# Altium integrated library Infineon_Microcontroller.IntLib: 721 symbols (part 36 of 66)
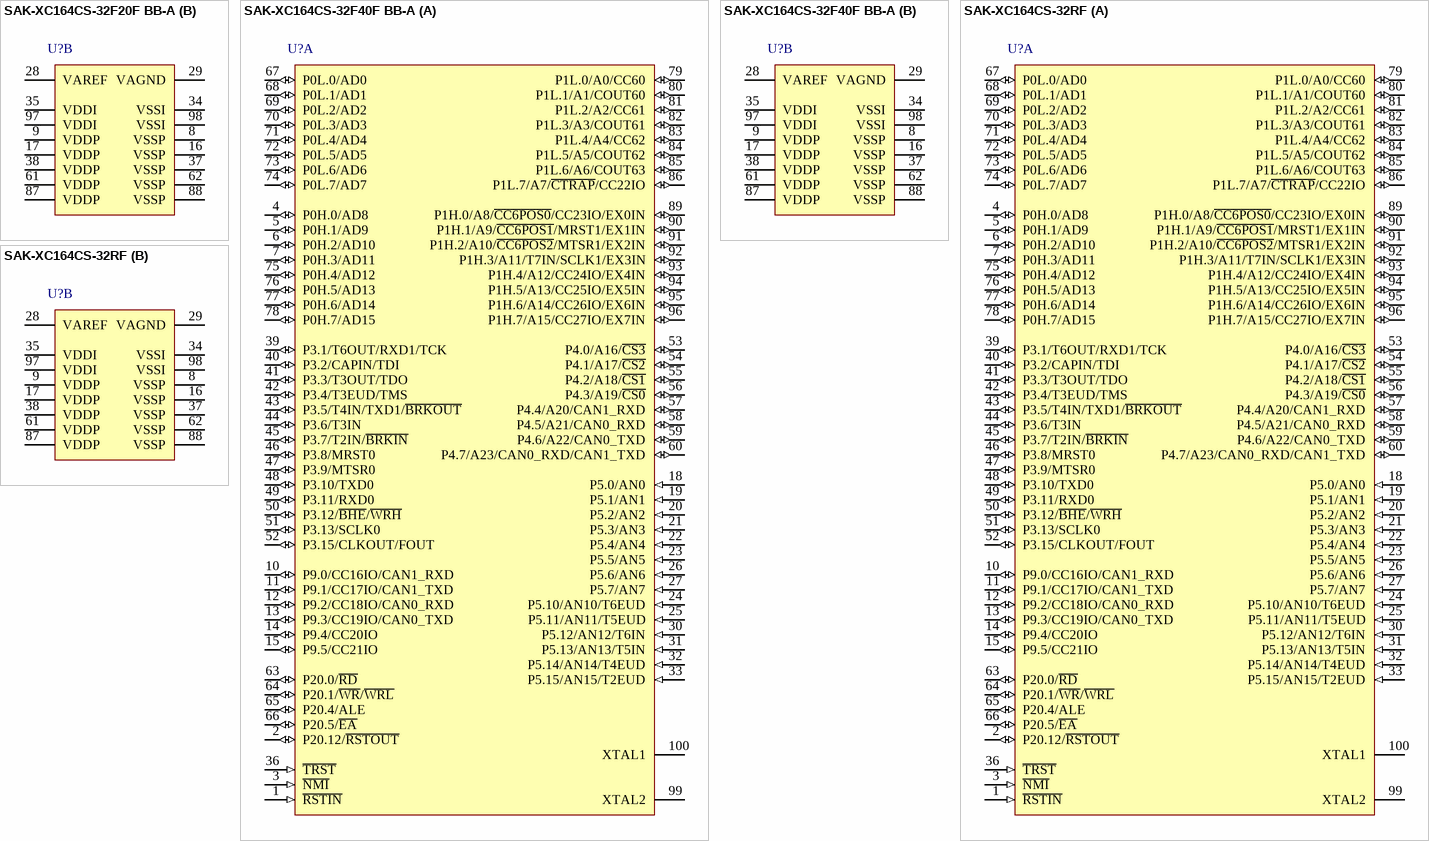
[diagram p153: symbols SAK-XC164CS-32F20F BB-A to SAK-XC164CS-32RF]

## SAK-XC164CS-32F20F BB-A
designator U?
20 MHz XC166 MCU with 256 KByte Program Memory, 12 KByte SRAM, 5 V, -40 to 125 degC, PG-TQFP-100, Reel, Green; Manufacturer: Infineon; PartNumber: SAK-XC164CS-32F20F BB-A; A / D input lines (incl. FADC): 14; CAN Nodes: 2; Digital I/O Lines: 79; DSP functionality (e.g MDU/MAC): TRUE; I/O Operation Voltages: 5 V; Instruction width [bits]: 16; Max Clock Frequency: 20 MHz; Number of ADC Modules: 1; Power Modes: 3; Serial I/O Interfaces: 4; Timed I/O Pins (PWM-Ch,CAPCOM): 36; Timer / Counter: 11; Type of Memory: Flash; Type of Serial I/O Interfaces: ASC(2), SSC(2); DatasheetVersion: Rev. 1.1; PackageVersion: V2.3, 08/2006; PackageReference: PG-TQFP-100-5; PackageDescription: 100-Pin Plastic Green Thin Quad Flat Package, Body 14 x 14 mm, Pitch 0.5 mm; Supplier 1: Digi-Key; Supplier Part Number 1: SAK-XC164CS-32F20F BB-A-ND; External Bus interface: TRUE; Green: TRUE; Halogen-free: TRUE; Oscillator Watchdog: TRUE; Packing: Reel; Program Memory: 256 KByte; Real Time Clock (RTC): TRUE; SRAM (incl. Cache): 12 KByte; Watchdog Timer: TRUE; Mounting Technology: Surface Mount; Code_JEDEC: J-STD-020C; ComponentLink1Description: Manufacturer URL; ComponentLink1URL: http://www.infineon.com/; ComponentLink2Description: Datasheet; ComponentLink2URL: http://www.infineon.com/dgdl/xc164cs_32_ds_v1.1_2006_08.pdf?folderId=db3a3043136c9a8b01136d92c94b0061&fileId=db3a3043136c9a8b01136d9c9f930069; ComponentLink3Description: Package Specification; ComponentLink3URL: http://www.infineon.com/dgdl/xc164cs_16_ds_v2.3_2006_08.pdf?folderId=db3a3043136c9a8b01136d92c94b0061&fileId=db3a3043136c9a8b01136daed118006e&sId=db3a30433d956bc3013d9bdc2bfa14ec
footprint INF-PG-TQFP-100-5_N (QFP, 100-Leads, Body 14x14mm, Pitch 0.5mm, IPC Medium Density)
footprint INF-PG-TQFP-100-5_L (QFP, 100-Leads, Body 14x14mm, Pitch 0.5mm, IPC High Density)
footprint INF-PG-TQFP-100-5_M (QFP, 100-Leads, Body 14x14mm, Pitch 0.5mm, IPC Low Density)
part A pins: 1 ~{RSTIN} (in) "Reset Input with Schmitt-Trigger characteristics. A low level at this pin while the oscillator is running resets the XC164CS. A spike filter suppresses input pulses < 10 ns. Input pulses > 100 ns safely pass the filter. The (See Datasheet)", 2 P20.12/~{RSTOUT} (io), 3 ~{NMI} (in) "Non-Maskable Interrupt Input. A high to low transition at this pin causes the CPU to vector to the NMI trap routine. When the PWRDN (power down) instruction is executed, the N\M\I\ pin must be low in order to force the (See Datasheet)", 4 P0H.0/AD8 (io), 5 P0H.1/AD9 (io), 6 P0H.2/AD10 (io), 7 P0H.3/AD11 (io), 10 P9.0/CC16IO/CAN1_RXD (io), 11 P9.1/CC17IO/CAN1_TXD (io), 12 P9.2/CC18IO/CAN0_RXD (io), 13 P9.3/CC19IO/CAN0_TXD (io), 14 P9.4/CC20IO (io), 15 P9.5/CC21IO (io), 18 P5.0/AN0 (in), 19 P5.1/AN1 (in), 20 P5.2/AN2 (in), 21 P5.3/AN3 (in), 22 P5.4/AN4 (in), 23 P5.5/AN5 (in), 24 P5.10/AN10/T6EUD (in), 25 P5.11/AN11/T5EUD (in), 26 P5.6/AN6 (in), 27 P5.7/AN7 (in), 30 P5.12/AN12/T6IN (in), 31 P5.13/AN13/T5IN (in), 32 P5.14/AN14/T4EUD (in), 33 P5.15/AN15/T2EUD (in), 36 ~{TRST} (in) "Test-System Reset Input. A high level at this pin activates the XC164CS’s debug system. For normal system operation, pin T\R\S\T\ should be held low.", 39 P3.1/T6OUT/RXD1/TCK (io), 40 P3.2/CAPIN/TDI (io), 41 P3.3/T3OUT/TDO (io), 42 P3.4/T3EUD/TMS (io), 43 P3.5/T4IN/TXD1/~{BRKOUT} (io), 44 P3.6/T3IN (io), 45 P3.7/T2IN/~{BRKIN} (io), 46 P3.8/MRST0 (io), 47 P3.9/MTSR0 (io), 48 P3.10/TXD0 (io), 49 P3.11/RXD0 (io), 50 P3.12/~{BHE}/~{WRH} (io), 51 P3.13/SCLK0 (io), 52 P3.15/CLKOUT/FOUT (io), 53 P4.0/A16/~{CS3} (io), 54 P4.1/A17/~{CS2} (io), 55 P4.2/A18/~{CS1} (io), 56 P4.3/A19/~{CS0} (io), 57 P4.4/A20/CAN1_RXD (io), 58 P4.5/A21/CAN0_RXD (io), 59 P4.6/A22/CAN0_TXD (io), 60 P4.7/A23/CAN0_RXD/CAN1_TXD (io), 63 P20.0/~{RD} (io), 64 P20.1/~{WR}/~{WRL} (io), 65 P20.4/ALE (io), 66 P20.5/~{EA} (io), 67 P0L.0/AD0 (io), 68 P0L.1/AD1 (io), 69 P0L.2/AD2 (io), 70 P0L.3/AD3 (io), 71 P0L.4/AD4 (io), 72 P0L.5/AD5 (io), 73 P0L.6/AD6 (io), 74 P0L.7/AD7 (io), 75 P0H.4/AD12 (io), 76 P0H.5/AD13 (io), 77 P0H.6/AD14 (io), 78 P0H.7/AD15 (io), 79 P1L.0/A0/CC60 (io), 80 P1L.1/A1/COUT60 (io), 81 P1L.2/A2/CC61 (io), 82 P1L.3/A3/COUT61 (io), 83 P1L.4/A4/CC62 (io), 84 P1L.5/A5/COUT62 (io), 85 P1L.6/A6/COUT63 (io), 86 P1L.7/A7/~{CTRAP}/CC22IO (io), 89 P1H.0/A8/~{CC6POS0}/CC23IO/EX0IN (io), 90 P1H.1/A9/~{CC6POS1}/MRST1/EX1IN (io), 91 P1H.2/A10/~{CC6POS2}/MTSR1/EX2IN (io), 92 P1H.3/A11/T7IN/SCLK1/EX3IN (io), 93 P1H.4/A12/CC24IO/EX4IN (io), 94 P1H.5/A13/CC25IO/EX5IN (io), 95 P1H.6/A14/CC26IO/EX6IN (io), 96 P1H.7/A15/CC27IO/EX7IN (io), 99 XTAL2 "Output of the oscillator amplifier circuit", 100 XTAL1 "Input to the oscillator amplifier and input to the internal clock generator"
part B pins: 8 VSSP (power) "Digital Ground.", 9 VDDP (power) "Digital Pad Supply Voltage", 16 VSSP (power) "Digital Ground.", 17 VDDP (power) "Digital Pad Supply Voltage", 28 VAREF (power) "Reference voltage for the A/D converter.", 29 VAGND (power) "Reference ground for the A/D converter.", 34 VSSI (power) "Digital Ground.", 35 VDDI (power) "Digital Core Supply Voltage", 37 VSSP (power) "Digital Ground.", 38 VDDP (power) "Digital Pad Supply Voltage", 61 VDDP (power) "Digital Pad Supply Voltage", 62 VSSP (power) "Digital Ground.", 87 VDDP (power) "Digital Pad Supply Voltage", 88 VSSP (power) "Digital Ground.", 97 VDDI (power) "Digital Core Supply Voltage", 98 VSSI (power) "Digital Ground."

## SAK-XC164CS-32F40F BB-A
designator U?
40 MHz XC166 MCU with 256 KByte Program Memory, 12 KByte SRAM, 5 V, -40 to 125 degC, PG-TQFP-100, Reel, Green; Manufacturer: Infineon; PartNumber: SAK-XC164CS-32F40F BB-A; A / D input lines (incl. FADC): 14; CAN Nodes: 2; Digital I/O Lines: 79; DSP functionality (e.g MDU/MAC): TRUE; I/O Operation Voltages: 5 V; Instruction width [bits]: 16; Max Clock Frequency: 40 MHz; Number of ADC Modules: 1; Power Modes: 3; Serial I/O Interfaces: 4; Timed I/O Pins (PWM-Ch,CAPCOM): 36; Timer / Counter: 11; Type of Memory: Flash; Type of Serial I/O Interfaces: ASC(2), SSC(2); DatasheetVersion: Rev. 1.1; PackageVersion: V2.3, 08/2006; PackageReference: PG-TQFP-100-5; PackageDescription: 100-Pin Plastic Green Thin Quad Flat Package, Body 14 x 14 mm, Pitch 0.5 mm; Supplier 1: Mouser; Supplier Part Number 1: 726-SAK164CS32F40FBA; Supplier 2: Newark; Supplier Part Number 2: 47W3712; Supplier 3: Farnell; Supplier Part Number 3: 2212021; Supplier 4: Digi-Key; Supplier Part Number 4: SAK-XC164CS-32F40FBB-AINTR-ND; Supplier 5: Digi-Key; Supplier Part Number 5: SAK-XC164CS-32F40FBB-AINCT-ND; Supplier 6: Digi-Key; Supplier Part Number 6: SAK-XC164CS-32F40FBB-AINDKR-ND; External Bus interface: TRUE; Green: TRUE; Halogen-free: TRUE; Oscillator Watchdog: TRUE; Packing: Reel; Program Memory: 256 KByte; Real Time Clock (RTC): TRUE; SRAM (incl. Cache): 12 KByte; Watchdog Timer: TRUE; Mounting Technology: Surface Mount; Code_JEDEC: J-STD-020C; ComponentLink1Description: Manufacturer URL; ComponentLink1URL: http://www.infineon.com/; ComponentLink2Description: Datasheet; ComponentLink2URL: http://www.infineon.com/dgdl/xc164cs_32_ds_v1.1_2006_08.pdf?folderId=db3a3043136c9a8b01136d92c94b0061&fileId=db3a3043136c9a8b01136d9c9f930069; ComponentLink3Description: Package Specification; ComponentLink3URL: http://www.infineon.com/dgdl/xc164cs_16_ds_v2.3_2006_08.pdf?folderId=db3a3043136c9a8b01136d92c94b0061&fileId=db3a3043136c9a8b01136daed118006e&sId=db3a30433d956bc3013d9bdc2bfa14ec
footprint INF-PG-TQFP-100-5_N (QFP, 100-Leads, Body 14x14mm, Pitch 0.5mm, IPC Medium Density)
footprint INF-PG-TQFP-100-5_L (QFP, 100-Leads, Body 14x14mm, Pitch 0.5mm, IPC High Density)
footprint INF-PG-TQFP-100-5_M (QFP, 100-Leads, Body 14x14mm, Pitch 0.5mm, IPC Low Density)
part A pins: 1 ~{RSTIN} (in) "Reset Input with Schmitt-Trigger characteristics. A low level at this pin while the oscillator is running resets the XC164CS. A spike filter suppresses input pulses < 10 ns. Input pulses > 100 ns safely pass the filter. The (See Datasheet)", 2 P20.12/~{RSTOUT} (io), 3 ~{NMI} (in) "Non-Maskable Interrupt Input. A high to low transition at this pin causes the CPU to vector to the NMI trap routine. When the PWRDN (power down) instruction is executed, the N\M\I\ pin must be low in order to force the (See Datasheet)", 4 P0H.0/AD8 (io), 5 P0H.1/AD9 (io), 6 P0H.2/AD10 (io), 7 P0H.3/AD11 (io), 10 P9.0/CC16IO/CAN1_RXD (io), 11 P9.1/CC17IO/CAN1_TXD (io), 12 P9.2/CC18IO/CAN0_RXD (io), 13 P9.3/CC19IO/CAN0_TXD (io), 14 P9.4/CC20IO (io), 15 P9.5/CC21IO (io), 18 P5.0/AN0 (in), 19 P5.1/AN1 (in), 20 P5.2/AN2 (in), 21 P5.3/AN3 (in), 22 P5.4/AN4 (in), 23 P5.5/AN5 (in), 24 P5.10/AN10/T6EUD (in), 25 P5.11/AN11/T5EUD (in), 26 P5.6/AN6 (in), 27 P5.7/AN7 (in), 30 P5.12/AN12/T6IN (in), 31 P5.13/AN13/T5IN (in), 32 P5.14/AN14/T4EUD (in), 33 P5.15/AN15/T2EUD (in), 36 ~{TRST} (in) "Test-System Reset Input. A high level at this pin activates the XC164CS’s debug system. For normal system operation, pin T\R\S\T\ should be held low.", 39 P3.1/T6OUT/RXD1/TCK (io), 40 P3.2/CAPIN/TDI (io), 41 P3.3/T3OUT/TDO (io), 42 P3.4/T3EUD/TMS (io), 43 P3.5/T4IN/TXD1/~{BRKOUT} (io), 44 P3.6/T3IN (io), 45 P3.7/T2IN/~{BRKIN} (io), 46 P3.8/MRST0 (io), 47 P3.9/MTSR0 (io), 48 P3.10/TXD0 (io), 49 P3.11/RXD0 (io), 50 P3.12/~{BHE}/~{WRH} (io), 51 P3.13/SCLK0 (io), 52 P3.15/CLKOUT/FOUT (io), 53 P4.0/A16/~{CS3} (io), 54 P4.1/A17/~{CS2} (io), 55 P4.2/A18/~{CS1} (io), 56 P4.3/A19/~{CS0} (io), 57 P4.4/A20/CAN1_RXD (io), 58 P4.5/A21/CAN0_RXD (io), 59 P4.6/A22/CAN0_TXD (io), 60 P4.7/A23/CAN0_RXD/CAN1_TXD (io), 63 P20.0/~{RD} (io), 64 P20.1/~{WR}/~{WRL} (io), 65 P20.4/ALE (io), 66 P20.5/~{EA} (io), 67 P0L.0/AD0 (io), 68 P0L.1/AD1 (io), 69 P0L.2/AD2 (io), 70 P0L.3/AD3 (io), 71 P0L.4/AD4 (io), 72 P0L.5/AD5 (io), 73 P0L.6/AD6 (io), 74 P0L.7/AD7 (io), 75 P0H.4/AD12 (io), 76 P0H.5/AD13 (io), 77 P0H.6/AD14 (io), 78 P0H.7/AD15 (io), 79 P1L.0/A0/CC60 (io), 80 P1L.1/A1/COUT60 (io), 81 P1L.2/A2/CC61 (io), 82 P1L.3/A3/COUT61 (io), 83 P1L.4/A4/CC62 (io), 84 P1L.5/A5/COUT62 (io), 85 P1L.6/A6/COUT63 (io), 86 P1L.7/A7/~{CTRAP}/CC22IO (io), 89 P1H.0/A8/~{CC6POS0}/CC23IO/EX0IN (io), 90 P1H.1/A9/~{CC6POS1}/MRST1/EX1IN (io), 91 P1H.2/A10/~{CC6POS2}/MTSR1/EX2IN (io), 92 P1H.3/A11/T7IN/SCLK1/EX3IN (io), 93 P1H.4/A12/CC24IO/EX4IN (io), 94 P1H.5/A13/CC25IO/EX5IN (io), 95 P1H.6/A14/CC26IO/EX6IN (io), 96 P1H.7/A15/CC27IO/EX7IN (io), 99 XTAL2 "Output of the oscillator amplifier circuit", 100 XTAL1 "Input to the oscillator amplifier and input to the internal clock generator"
part B pins: 8 VSSP (power) "Digital Ground.", 9 VDDP (power) "Digital Pad Supply Voltage", 16 VSSP (power) "Digital Ground.", 17 VDDP (power) "Digital Pad Supply Voltage", 28 VAREF (power) "Reference voltage for the A/D converter.", 29 VAGND (power) "Reference ground for the A/D converter.", 34 VSSI (power) "Digital Ground.", 35 VDDI (power) "Digital Core Supply Voltage", 37 VSSP (power) "Digital Ground.", 38 VDDP (power) "Digital Pad Supply Voltage", 61 VDDP (power) "Digital Pad Supply Voltage", 62 VSSP (power) "Digital Ground.", 87 VDDP (power) "Digital Pad Supply Voltage", 88 VSSP (power) "Digital Ground.", 97 VDDI (power) "Digital Core Supply Voltage", 98 VSSI (power) "Digital Ground."

## SAK-XC164CS-32RF
designator U?
40 MHz XC166 MCU with 256 KByte Program Memory, 12 KByte SRAM, 5 V, -40 to 125 degC, PG-TQFP-100, Green; Manufacturer: Infineon; PartNumber: SAK-XC164CS-32RF; A / D input lines (incl. FADC): 14; CAN Nodes: 2; Digital I/O Lines: 79; DSP functionality (e.g MDU/MAC): TRUE; I/O Operation Voltages: 5 V; Instruction width [bits]: 16; Max Clock Frequency: 40 MHz; Number of ADC Modules: 1; Power Modes: 3; Serial I/O Interfaces: 4; Timed I/O Pins (PWM-Ch,CAPCOM): 36; Timer / Counter: 11; Type of Memory: ROM; Type of Serial I/O Interfaces: ASC(2), SSC(2); DatasheetVersion: Rev. 1.1; PackageVersion: V2.3, 08/2006; PackageReference: PG-TQFP-100-5; PackageDescription: 100-Pin Plastic Green Thin Quad Flat Package, Body 14 x 14 mm, Pitch 0.5 mm; Supplier 1: Mouser; Supplier Part Number 1: N/A; External Bus interface: TRUE; Green: TRUE; Oscillator Watchdog: TRUE; Program Memory: 256 KByte; Real Time Clock (RTC): TRUE; SRAM (incl. Cache): 12 KByte; Watchdog Timer: TRUE; Mounting Technology: Surface Mount; Code_JEDEC: J-STD-020C; ComponentLink1Description: Manufacturer URL; ComponentLink1URL: http://www.infineon.com/; ComponentLink2Description: Datasheet; ComponentLink2URL: http://www.infineon.com/dgdl/xc164cs_32_ds_v1.1_2006_08.pdf?folderId=db3a3043136c9a8b01136d92c94b0061&fileId=db3a3043136c9a8b01136d9c9f930069; ComponentLink3Description: Package Specification; ComponentLink3URL: http://www.infineon.com/dgdl/xc164cs_16_ds_v2.3_2006_08.pdf?folderId=db3a3043136c9a8b01136d92c94b0061&fileId=db3a3043136c9a8b01136daed118006e&sId=db3a30433d956bc3013d9bdc2bfa14ec
footprint INF-PG-TQFP-100-5_N (QFP, 100-Leads, Body 14x14mm, Pitch 0.5mm, IPC Medium Density)
footprint INF-PG-TQFP-100-5_L (QFP, 100-Leads, Body 14x14mm, Pitch 0.5mm, IPC High Density)
footprint INF-PG-TQFP-100-5_M (QFP, 100-Leads, Body 14x14mm, Pitch 0.5mm, IPC Low Density)
part A pins: 1 ~{RSTIN} (in) "Reset Input with Schmitt-Trigger characteristics. A low level at this pin while the oscillator is running resets the XC164CS. A spike filter suppresses input pulses < 10 ns. Input pulses > 100 ns safely pass the filter. The (See Datasheet)", 2 P20.12/~{RSTOUT} (io), 3 ~{NMI} (in) "Non-Maskable Interrupt Input. A high to low transition at this pin causes the CPU to vector to the NMI trap routine. When the PWRDN (power down) instruction is executed, the N\M\I\ pin must be low in order to force the (See Datasheet)", 4 P0H.0/AD8 (io), 5 P0H.1/AD9 (io), 6 P0H.2/AD10 (io), 7 P0H.3/AD11 (io), 10 P9.0/CC16IO/CAN1_RXD (io), 11 P9.1/CC17IO/CAN1_TXD (io), 12 P9.2/CC18IO/CAN0_RXD (io), 13 P9.3/CC19IO/CAN0_TXD (io), 14 P9.4/CC20IO (io), 15 P9.5/CC21IO (io), 18 P5.0/AN0 (in), 19 P5.1/AN1 (in), 20 P5.2/AN2 (in), 21 P5.3/AN3 (in), 22 P5.4/AN4 (in), 23 P5.5/AN5 (in), 24 P5.10/AN10/T6EUD (in), 25 P5.11/AN11/T5EUD (in), 26 P5.6/AN6 (in), 27 P5.7/AN7 (in), 30 P5.12/AN12/T6IN (in), 31 P5.13/AN13/T5IN (in), 32 P5.14/AN14/T4EUD (in), 33 P5.15/AN15/T2EUD (in), 36 ~{TRST} (in) "Test-System Reset Input. A high level at this pin activates the XC164CS’s debug system. For normal system operation, pin T\R\S\T\ should be held low.", 39 P3.1/T6OUT/RXD1/TCK (io), 40 P3.2/CAPIN/TDI (io), 41 P3.3/T3OUT/TDO (io), 42 P3.4/T3EUD/TMS (io), 43 P3.5/T4IN/TXD1/~{BRKOUT} (io), 44 P3.6/T3IN (io), 45 P3.7/T2IN/~{BRKIN} (io), 46 P3.8/MRST0 (io), 47 P3.9/MTSR0 (io), 48 P3.10/TXD0 (io), 49 P3.11/RXD0 (io), 50 P3.12/~{BHE}/~{WRH} (io), 51 P3.13/SCLK0 (io), 52 P3.15/CLKOUT/FOUT (io), 53 P4.0/A16/~{CS3} (io), 54 P4.1/A17/~{CS2} (io), 55 P4.2/A18/~{CS1} (io), 56 P4.3/A19/~{CS0} (io), 57 P4.4/A20/CAN1_RXD (io), 58 P4.5/A21/CAN0_RXD (io), 59 P4.6/A22/CAN0_TXD (io), 60 P4.7/A23/CAN0_RXD/CAN1_TXD (io), 63 P20.0/~{RD} (io), 64 P20.1/~{WR}/~{WRL} (io), 65 P20.4/ALE (io), 66 P20.5/~{EA} (io), 67 P0L.0/AD0 (io), 68 P0L.1/AD1 (io), 69 P0L.2/AD2 (io), 70 P0L.3/AD3 (io), 71 P0L.4/AD4 (io), 72 P0L.5/AD5 (io), 73 P0L.6/AD6 (io), 74 P0L.7/AD7 (io), 75 P0H.4/AD12 (io), 76 P0H.5/AD13 (io), 77 P0H.6/AD14 (io), 78 P0H.7/AD15 (io), 79 P1L.0/A0/CC60 (io), 80 P1L.1/A1/COUT60 (io), 81 P1L.2/A2/CC61 (io), 82 P1L.3/A3/COUT61 (io), 83 P1L.4/A4/CC62 (io), 84 P1L.5/A5/COUT62 (io), 85 P1L.6/A6/COUT63 (io), 86 P1L.7/A7/~{CTRAP}/CC22IO (io), 89 P1H.0/A8/~{CC6POS0}/CC23IO/EX0IN (io), 90 P1H.1/A9/~{CC6POS1}/MRST1/EX1IN (io), 91 P1H.2/A10/~{CC6POS2}/MTSR1/EX2IN (io), 92 P1H.3/A11/T7IN/SCLK1/EX3IN (io), 93 P1H.4/A12/CC24IO/EX4IN (io), 94 P1H.5/A13/CC25IO/EX5IN (io), 95 P1H.6/A14/CC26IO/EX6IN (io), 96 P1H.7/A15/CC27IO/EX7IN (io), 99 XTAL2 "Output of the oscillator amplifier circuit", 100 XTAL1 "Input to the oscillator amplifier and input to the internal clock generator"
part B pins: 8 VSSP (power) "Digital Ground.", 9 VDDP (power) "Digital Pad Supply Voltage", 16 VSSP (power) "Digital Ground.", 17 VDDP (power) "Digital Pad Supply Voltage", 28 VAREF (power) "Reference voltage for the A/D converter.", 29 VAGND (power) "Reference ground for the A/D converter.", 34 VSSI (power) "Digital Ground.", 35 VDDI (power) "Digital Core Supply Voltage", 37 VSSP (power) "Digital Ground.", 38 VDDP (power) "Digital Pad Supply Voltage", 61 VDDP (power) "Digital Pad Supply Voltage", 62 VSSP (power) "Digital Ground.", 87 VDDP (power) "Digital Pad Supply Voltage", 88 VSSP (power) "Digital Ground.", 97 VDDI (power) "Digital Core Supply Voltage", 98 VSSI (power) "Digital Ground."

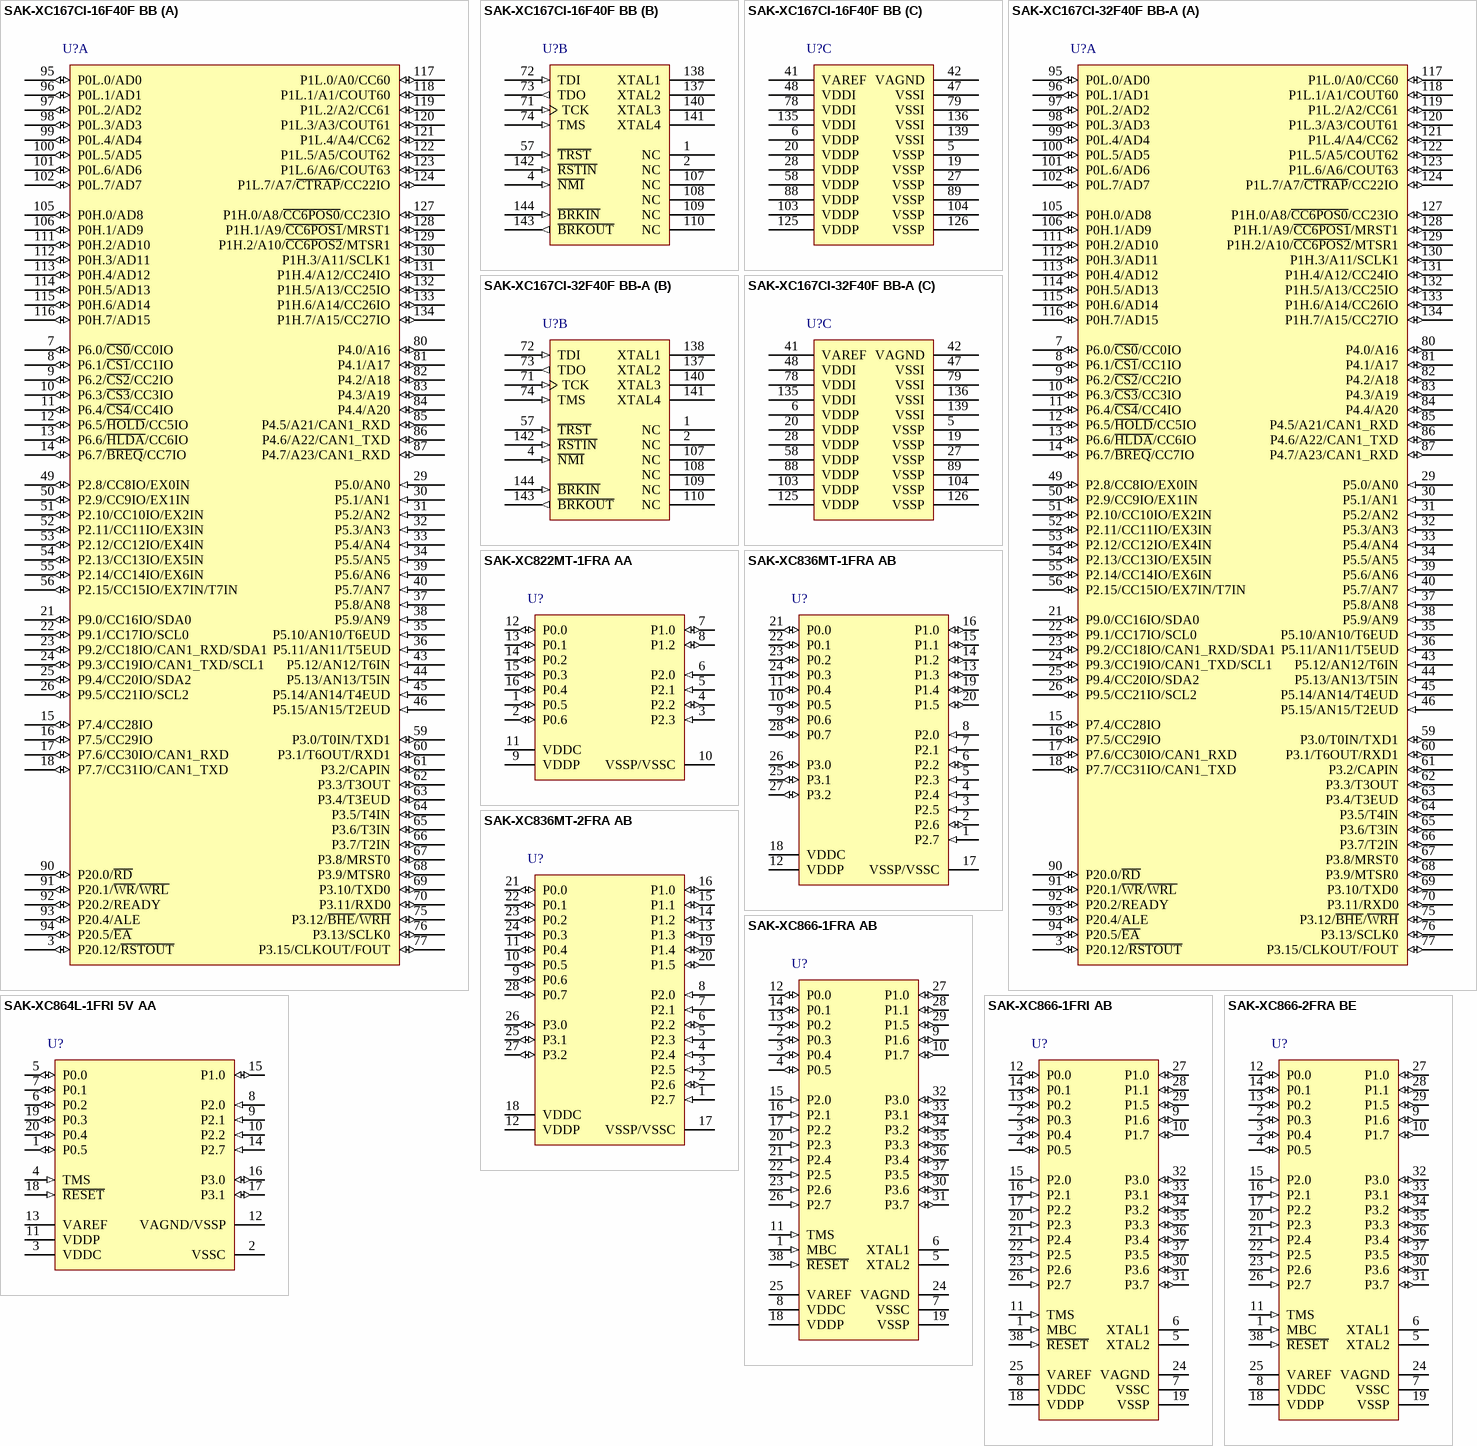
[diagram p66: symbols SAK-XC167CI-16F40F BB to SAK-XC866-2FRA BE]

## SAK-XC167CI-16F40F BB
designator U?
40 MHz XC166 MCU with 128 KByte Program Memory, 8 KByte SRAM, 5 V, -40 to 125 degC, PG-TQFP-144, Reel, Green; Manufacturer: Infineon; PartNumber: SAK-XC167CI-16F40F BB; A / D input lines (incl. FADC): 16; CAN Nodes: 2; Digital I/O Lines: 103; DSP functionality (e.g MDU/MAC): TRUE; I/O Operation Voltages: 5 V; Max Clock Frequency: 40 MHz; Number of ADC Modules: 1; Power Modes: 3; Serial I/O Interfaces: 5; SRAM (incl. Cache): 8 KByte; Timed I/O Pins (PWM-Ch,CAPCOM): 36; Timer / Counter: 11; Type of Memory: Flash; Type of Serial I/O Interfaces: ASC(2), SSC(2), I2C(1); DatasheetVersion: Rev. 1.3; PackageVersion: V1.1, 08/2006; PackageReference: PG-TQFP-144-7; PackageDescription: 144-Pin Plastic Green Thin Quad Flat Package, Body 20 x 20 mm, Pitch 0.5 mm; Supplier 1: Mouser; Supplier Part Number 1: 726-SAKXC167CI16F40F; Supplier 2: Digi-Key; Supplier Part Number 2: SAK-XC167CI-16F40F BB-ND; External Bus interface: TRUE; Green: TRUE; Halogen-free: TRUE; Instruction width [bits]: 16; Oscillator Watchdog: TRUE; Packing: Reel; Program Memory: 128 KByte; Real Time Clock (RTC): TRUE; Watchdog Timer: TRUE; Mounting Technology: Surface Mount; Code_JEDEC: J-STD-020C; ComponentLink1Description: Manufacturer URL; ComponentLink1URL: http://www.infineon.com/; ComponentLink2Description: Datasheet; ComponentLink2URL: http://www.infineon.com/dgdl/xc167_16_ds_v1.3_2006_08.pdf?folderId=db3a304412b407950112b408e8c90004&fileId=db3a304412b407950112b41c5e142dfa; ComponentLink3Description: Package Specification; ComponentLink3URL: http://www.infineon.com/dgdl/xc167_32_ds_v1.1_2006_08.pdf?folderId=db3a304412b407950112b408e8c90004&fileId=db3a304412b407950112b41c637b2e04&sId=db3a30433d956bc3013d9c1678401507
footprint INF-PG-TQFP-144-7_N (QFP, 144-Leads, Body 20x20mm, Pitch 0.5mm, IPC Medium Density)
footprint INF-PG-TQFP-144-7_L (QFP, 144-Leads, Body 20x20mm, Pitch 0.5mm, IPC High Density)
footprint INF-PG-TQFP-144-7_M (QFP, 144-Leads, Body 20x20mm, Pitch 0.5mm, IPC Low Density)
part A pins: 3 P20.12/~{RSTOUT} (io), 7 P6.0/~{CS0}/CC0IO (io), 8 P6.1/~{CS1}/CC1IO (io), 9 P6.2/~{CS2}/CC2IO (io), 10 P6.3/~{CS3}/CC3IO (io), 11 P6.4/~{CS4}/CC4IO (io), 12 P6.5/~{HOLD}/CC5IO (io), 13 P6.6/~{HLDA}/CC6IO (io), 14 P6.7/~{BREQ}/CC7IO (io), 15 P7.4/CC28IO (io), 16 P7.5/CC29IO (io), 17 P7.6/CC30IO/CAN1_RXD (io), 18 P7.7/CC31IO/CAN1_TXD (io), 21 P9.0/CC16IO/SDA0 (io), 22 P9.1/CC17IO/SCL0 (io), 23 P9.2/CC18IO/CAN1_RXD/SDA1 (io), 24 P9.3/CC19IO/CAN1_TXD/SCL1 (io), 25 P9.4/CC20IO/SDA2 (io), 26 P9.5/CC21IO/SCL2 (io), 29 P5.0/AN0 (in), 30 P5.1/AN1 (in), 31 P5.2/AN2 (in), 32 P5.3/AN3 (in), 33 P5.4/AN4 (in), 34 P5.5/AN5 (in), 35 P5.10/AN10/T6EUD (in), 36 P5.11/AN11/T5EUD (in), 37 P5.8/AN8 (in), 38 P5.9/AN9 (in), 39 P5.6/AN6 (in), 40 P5.7/AN7 (in), 43 P5.12/AN12/T6IN (in), 44 P5.13/AN13/T5IN (in), 45 P5.14/AN14/T4EUD (in), 46 P5.15/AN15/T2EUD (in), 49 P2.8/CC8IO/EX0IN (io), 50 P2.9/CC9IO/EX1IN (io), 51 P2.10/CC10IO/EX2IN (io), 52 P2.11/CC11IO/EX3IN (io), 53 P2.12/CC12IO/EX4IN (io), 54 P2.13/CC13IO/EX5IN (io), 55 P2.14/CC14IO/EX6IN (io), 56 P2.15/CC15IO/EX7IN/T7IN (io), 59 P3.0/T0IN/TXD1 (io), 60 P3.1/T6OUT/RXD1 (io), 61 P3.2/CAPIN (io), 62 P3.3/T3OUT (io), 63 P3.4/T3EUD (io), 64 P3.5/T4IN (io), 65 P3.6/T3IN (io), 66 P3.7/T2IN (io), 67 P3.8/MRST0 (io), 68 P3.9/MTSR0 (io), 69 P3.10/TXD0 (io), 70 P3.11/RXD0 (io), 75 P3.12/~{BHE}/~{WRH} (io), 76 P3.13/SCLK0 (io), 77 P3.15/CLKOUT/FOUT (io), 80 P4.0/A16 (io), 81 P4.1/A17 (io), 82 P4.2/A18 (io), 83 P4.3/A19 (io), 84 P4.4/A20 (io), 85 P4.5/A21/CAN1_RXD (io), 86 P4.6/A22/CAN1_TXD (io), 87 P4.7/A23/CAN1_RXD (io), 90 P20.0/~{RD} (io), 91 P20.1/~{WR}/~{WRL} (io), 92 P20.2/READY (io), 93 P20.4/ALE (io), 94 P20.5/~{EA} (io), 95 P0L.0/AD0 (io), 96 P0L.1/AD1 (io), 97 P0L.2/AD2 (io), 98 P0L.3/AD3 (io), 99 P0L.4/AD4 (io), 100 P0L.5/AD5 (io), 101 P0L.6/AD6 (io), 102 P0L.7/AD7 (io), 105 P0H.0/AD8 (io), 106 P0H.1/AD9 (io), 111 P0H.2/AD10 (io), 112 P0H.3/AD11 (io), 113 P0H.4/AD12 (io), 114 P0H.5/AD13 (io), 115 P0H.6/AD14 (io), 116 P0H.7/AD15 (io), 117 P1L.0/A0/CC60 (io), 118 P1L.1/A1/COUT60 (io), 119 P1L.2/A2/CC61 (io), 120 P1L.3/A3/COUT61 (io), 121 P1L.4/A4/CC62 (io), 122 P1L.5/A5/COUT62 (io), 123 P1L.6/A6/COUT63 (io), 124 P1L.7/A7/~{CTRAP}/CC22IO (io), 127 P1H.0/A8/~{CC6POS0}/CC23IO (io), 128 P1H.1/A9/~{CC6POS1}/MRST1 (io), 129 P1H.2/A10/~{CC6POS2}/MTSR1 (io), 130 P1H.3/A11/SCLK1 (io), 131 P1H.4/A12/CC24IO (io), 132 P1H.5/A13/CC25IO (io), 133 P1H.6/A14/CC26IO (io), 134 P1H.7/A15/CC27IO (io)
part B pins: 1 NC "No connection. It is recommended not to connect these pins to the PCB.", 2 NC "No connection. It is recommended not to connect these pins to the PCB.", 4 ~{NMI} (in) "Non-Maskable Interrupt Input. A high to low transition at this pin causes the CPU to vector to the NMI trap routine. When the PWRDN (power down) instruction is executed, the N\M\I\ pin must be low in order to force the (See Datasheet)", 57 ~{TRST} (in) "Test-System Reset Input. For normal system operation, pin T\R\S\T\ should be held low. A high level at this pin at the rising edge of R\S\T\I\N\ activates the XC164CM’s debug system. In this case, pin T\R\S\T\ must b(See Datasheet)", 71 TCK (in) "Debug System: JTAG Clock Input", 72 TDI (in) "Debug System: JTAG Data In", 73 TDO (out) "Debug System: JTAG Data Out", 74 TMS (in) "Debug System: JTAG Test Mode Selection", 107 NC "No connection. It is recommended not to connect these pins to the PCB.", 108 NC "No connection. It is recommended not to connect these pins to the PCB.", 109 NC "No connection. It is recommended not to connect these pins to the PCB.", 110 NC "No connection. It is recommended not to connect these pins to the PCB.", 137 XTAL2 "Output of the main oscillator amplifier circuit", 138 XTAL1 "Input to the main oscillator amplifier and input to the internal clock generator", 140 XTAL3 "Input to the auxiliary (32-kHz) oscillator amplifier", 141 XTAL4 "Output of the auxiliary (32-kHz) oscillator amplifier circuit", 142 ~{RSTIN} (in) "Reset Input with Schmitt-Trigger characteristics. A low level at this pin while the oscillator is running resets the C161PI. An internal pullup resistor permits power-on reset using only a capacitor connected to 9SS. A spike (See Datasheet)", 143 ~{BRKOUT} (out) "Debug System: Break Out", 144 ~{BRKIN} (in) "Debug System: Break In"
part C pins: 5 VSSP (power) "Digital Ground", 6 VDDP (power) "Digital Pad Supply Voltage", 19 VSSP (power) "Digital Ground", 20 VDDP (power) "Digital Pad Supply Voltage", 27 VSSP (power) "Digital Ground", 28 VDDP (power) "Digital Pad Supply Voltage", 41 VAREF (power) "Reference voltage for the A/D converter.", 42 VAGND (power) "Reference ground for the A/D converter.", 47 VSSI (power) "Digital Ground", 48 VDDI (power) "Digital Core Supply Voltage", 58 VDDP (power) "Digital Pad Supply Voltage", 78 VDDI (power) "Digital Core Supply Voltage", 79 VSSI (power) "Digital Ground", 88 VDDP (power) "Digital Pad Supply Voltage", 89 VSSP (power) "Digital Ground", 103 VDDP (power) "Digital Pad Supply Voltage", 104 VSSP (power) "Digital Ground", 125 VDDP (power) "Digital Pad Supply Voltage", 126 VSSP (power) "Digital Ground", 135 VDDI (power) "Digital Core Supply Voltage", 136 VSSI (power) "Digital Ground", 139 VSSI (power) "Digital Ground"

## SAK-XC167CI-32F40F BB-A
designator U?
40 MHz XC166 MCU with 256 KByte Program Memory, 12 KByte SRAM, 5 V, -40 to 125 degC, PG-TQFP-144, Reel, Green; Manufacturer: Infineon; PartNumber: SAK-XC167CI-32F40F BB-A; A / D input lines (incl. FADC): 16; CAN Nodes: 2; Digital I/O Lines: 103; DSP functionality (e.g MDU/MAC): TRUE; I/O Operation Voltages: 5 V; Max Clock Frequency: 40 MHz; Number of ADC Modules: 1; Power Modes: 3; Serial I/O Interfaces: 5; Timed I/O Pins (PWM-Ch,CAPCOM): 36; Timer / Counter: 11; Type of Memory: Flash; Type of Serial I/O Interfaces: ASC(2), SSC(2), I2C(1); DatasheetVersion: Rev. 1.1; PackageVersion: V1.1, 08/2006; PackageReference: PG-TQFP-144-7; PackageDescription: 144-Pin Plastic Green Thin Quad Flat Package, Body 20 x 20 mm, Pitch 0.5 mm; Supplier 1: Mouser; Supplier Part Number 1: 726-SAKXC167CI32F40F; Supplier 2: Newark; Supplier Part Number 2: 47W3713; Supplier 3: Farnell; Supplier Part Number 3: 2212029; Supplier 4: Digi-Key; Supplier Part Number 4: SAK-XC167CI-32F40F BB-A-ND; External Bus interface: TRUE; Green: TRUE; Halogen-free: TRUE; Instruction width [bits]: 16; Oscillator Watchdog: TRUE; Packing: Reel; Program Memory: 256 KByte; Real Time Clock (RTC): TRUE; SRAM (incl. Cache): 12 KByte; Watchdog Timer: TRUE; Mounting Technology: Surface Mount; Code_JEDEC: J-STD-020C; ComponentLink1Description: Manufacturer URL; ComponentLink1URL: http://www.infineon.com/; ComponentLink2Description: Datasheet; ComponentLink2URL: http://www.infineon.com/dgdl/xc167_32_ds_v1.1_2006_08.pdf?folderId=db3a304412b407950112b408e8c90004&fileId=db3a304412b407950112b41c637b2e04; ComponentLink3Description: Package Specification; ComponentLink3URL: http://www.infineon.com/dgdl/xc167_32_ds_v1.1_2006_08.pdf?folderId=db3a304412b407950112b408e8c90004&fileId=db3a304412b407950112b41c637b2e04&sId=db3a30433d956bc3013d9c1678401507
footprint INF-PG-TQFP-144-7_N (QFP, 144-Leads, Body 20x20mm, Pitch 0.5mm, IPC Medium Density)
footprint INF-PG-TQFP-144-7_L (QFP, 144-Leads, Body 20x20mm, Pitch 0.5mm, IPC High Density)
footprint INF-PG-TQFP-144-7_M (QFP, 144-Leads, Body 20x20mm, Pitch 0.5mm, IPC Low Density)
part A pins: 3 P20.12/~{RSTOUT} (io), 7 P6.0/~{CS0}/CC0IO (io), 8 P6.1/~{CS1}/CC1IO (io), 9 P6.2/~{CS2}/CC2IO (io), 10 P6.3/~{CS3}/CC3IO (io), 11 P6.4/~{CS4}/CC4IO (io), 12 P6.5/~{HOLD}/CC5IO (io), 13 P6.6/~{HLDA}/CC6IO (io), 14 P6.7/~{BREQ}/CC7IO (io), 15 P7.4/CC28IO (io), 16 P7.5/CC29IO (io), 17 P7.6/CC30IO/CAN1_RXD (io), 18 P7.7/CC31IO/CAN1_TXD (io), 21 P9.0/CC16IO/SDA0 (io), 22 P9.1/CC17IO/SCL0 (io), 23 P9.2/CC18IO/CAN1_RXD/SDA1 (io), 24 P9.3/CC19IO/CAN1_TXD/SCL1 (io), 25 P9.4/CC20IO/SDA2 (io), 26 P9.5/CC21IO/SCL2 (io), 29 P5.0/AN0 (in), 30 P5.1/AN1 (in), 31 P5.2/AN2 (in), 32 P5.3/AN3 (in), 33 P5.4/AN4 (in), 34 P5.5/AN5 (in), 35 P5.10/AN10/T6EUD (in), 36 P5.11/AN11/T5EUD (in), 37 P5.8/AN8 (in), 38 P5.9/AN9 (in), 39 P5.6/AN6 (in), 40 P5.7/AN7 (in), 43 P5.12/AN12/T6IN (in), 44 P5.13/AN13/T5IN (in), 45 P5.14/AN14/T4EUD (in), 46 P5.15/AN15/T2EUD (in), 49 P2.8/CC8IO/EX0IN (io), 50 P2.9/CC9IO/EX1IN (io), 51 P2.10/CC10IO/EX2IN (io), 52 P2.11/CC11IO/EX3IN (io), 53 P2.12/CC12IO/EX4IN (io), 54 P2.13/CC13IO/EX5IN (io), 55 P2.14/CC14IO/EX6IN (io), 56 P2.15/CC15IO/EX7IN/T7IN (io), 59 P3.0/T0IN/TXD1 (io), 60 P3.1/T6OUT/RXD1 (io), 61 P3.2/CAPIN (io), 62 P3.3/T3OUT (io), 63 P3.4/T3EUD (io), 64 P3.5/T4IN (io), 65 P3.6/T3IN (io), 66 P3.7/T2IN (io), 67 P3.8/MRST0 (io), 68 P3.9/MTSR0 (io), 69 P3.10/TXD0 (io), 70 P3.11/RXD0 (io), 75 P3.12/~{BHE}/~{WRH} (io), 76 P3.13/SCLK0 (io), 77 P3.15/CLKOUT/FOUT (io), 80 P4.0/A16 (io), 81 P4.1/A17 (io), 82 P4.2/A18 (io), 83 P4.3/A19 (io), 84 P4.4/A20 (io), 85 P4.5/A21/CAN1_RXD (io), 86 P4.6/A22/CAN1_TXD (io), 87 P4.7/A23/CAN1_RXD (io), 90 P20.0/~{RD} (io), 91 P20.1/~{WR}/~{WRL} (io), 92 P20.2/READY (io), 93 P20.4/ALE (io), 94 P20.5/~{EA} (io), 95 P0L.0/AD0 (io), 96 P0L.1/AD1 (io), 97 P0L.2/AD2 (io), 98 P0L.3/AD3 (io), 99 P0L.4/AD4 (io), 100 P0L.5/AD5 (io), 101 P0L.6/AD6 (io), 102 P0L.7/AD7 (io), 105 P0H.0/AD8 (io), 106 P0H.1/AD9 (io), 111 P0H.2/AD10 (io), 112 P0H.3/AD11 (io), 113 P0H.4/AD12 (io), 114 P0H.5/AD13 (io), 115 P0H.6/AD14 (io), 116 P0H.7/AD15 (io), 117 P1L.0/A0/CC60 (io), 118 P1L.1/A1/COUT60 (io), 119 P1L.2/A2/CC61 (io), 120 P1L.3/A3/COUT61 (io), 121 P1L.4/A4/CC62 (io), 122 P1L.5/A5/COUT62 (io), 123 P1L.6/A6/COUT63 (io), 124 P1L.7/A7/~{CTRAP}/CC22IO (io), 127 P1H.0/A8/~{CC6POS0}/CC23IO (io), 128 P1H.1/A9/~{CC6POS1}/MRST1 (io), 129 P1H.2/A10/~{CC6POS2}/MTSR1 (io), 130 P1H.3/A11/SCLK1 (io), 131 P1H.4/A12/CC24IO (io), 132 P1H.5/A13/CC25IO (io), 133 P1H.6/A14/CC26IO (io), 134 P1H.7/A15/CC27IO (io)
part B pins: 1 NC "No connection. It is recommended not to connect these pins to the PCB.", 2 NC "No connection. It is recommended not to connect these pins to the PCB.", 4 ~{NMI} (in) "Non-Maskable Interrupt Input. A high to low transition at this pin causes the CPU to vector to the NMI trap routine. When the PWRDN (power down) instruction is executed, the N\M\I\ pin must be low in order to force the (See Datasheet)", 57 ~{TRST} (in) "Test-System Reset Input. For normal system operation, pin T\R\S\T\ should be held low. A high level at this pin at the rising edge of R\S\T\I\N\ activates the XC164CM’s debug system. In this case, pin T\R\S\T\ must b(See Datasheet)", 71 TCK (in) "Debug System: JTAG Clock Input", 72 TDI (in) "Debug System: JTAG Data In", 73 TDO (out) "Debug System: JTAG Data Out", 74 TMS (in) "Debug System: JTAG Test Mode Selection", 107 NC "No connection. It is recommended not to connect these pins to the PCB.", 108 NC "No connection. It is recommended not to connect these pins to the PCB.", 109 NC "No connection. It is recommended not to connect these pins to the PCB.", 110 NC "No connection. It is recommended not to connect these pins to the PCB.", 137 XTAL2 "Output of the main oscillator amplifier circuit", 138 XTAL1 "Input to the main oscillator amplifier and input to the internal clock generator", 140 XTAL3 "Input to the auxiliary (32-kHz) oscillator amplifier", 141 XTAL4 "Output of the auxiliary (32-kHz) oscillator amplifier circuit", 142 ~{RSTIN} (in) "Reset Input with Schmitt-Trigger characteristics. A low level at this pin while the oscillator is running resets the C161PI. An internal pullup resistor permits power-on reset using only a capacitor connected to 9SS. A spike (See Datasheet)", 143 ~{BRKOUT} (out) "Debug System: Break Out", 144 ~{BRKIN} (in) "Debug System: Break In"
part C pins: 5 VSSP (power) "Digital Ground", 6 VDDP (power) "Digital Pad Supply Voltage", 19 VSSP (power) "Digital Ground", 20 VDDP (power) "Digital Pad Supply Voltage", 27 VSSP (power) "Digital Ground", 28 VDDP (power) "Digital Pad Supply Voltage", 41 VAREF (power) "Reference voltage for the A/D converter.", 42 VAGND (power) "Reference ground for the A/D converter.", 47 VSSI (power) "Digital Ground", 48 VDDI (power) "Digital Core Supply Voltage", 58 VDDP (power) "Digital Pad Supply Voltage", 78 VDDI (power) "Digital Core Supply Voltage", 79 VSSI (power) "Digital Ground", 88 VDDP (power) "Digital Pad Supply Voltage", 89 VSSP (power) "Digital Ground", 103 VDDP (power) "Digital Pad Supply Voltage", 104 VSSP (power) "Digital Ground", 125 VDDP (power) "Digital Pad Supply Voltage", 126 VSSP (power) "Digital Ground", 135 VDDI (power) "Digital Core Supply Voltage", 136 VSSI (power) "Digital Ground", 139 VSSI (power) "Digital Ground"

## SAK-XC822MT-1FRA AA
designator U?
24 MHz XC800-Automotive MCU with 4 KByte Program Memory, 0.5 KByte SRAM, 2.9 V - 5.0 V, PG-TSSOP-16, Reel, Green; Manufacturer: Infineon; PartNumber: SAK-XC822MT-1FRA AA; A / D input lines (incl. FADC): 4; CAN Nodes: 0; Digital I/O Lines: 17; DSP functionality (e.g MDU/MAC): FALSE; E2PROM Emulation (Data-Flash): TRUE; Instruction width [bits]: 8; LIN BSL loader (for fast Flash programming): FALSE; Max Clock Frequency: 24 MHz; Number of ADC Modules: 1; Program Memory: 4 KByte; Serial I/O Interfaces: 3; Type of Memory: Flash; Type of Serial I/O Interfaces: UART(1), SSC(1), I2C(1); DatasheetVersion: Rev. 1.2; PackageVersion: V1.2, 10/2011; PackageReference: PG-TSSOP-16-1; PackageDescription: 16-Pin Plastic (Green) Thin Shrink Small Outline Package, Body 5.00 x 4.40 mm, Pitch 0.65 mm; Supplier 1: Mouser; Supplier Part Number 1: 726-SAKXC822MT1FRAAA; Supplier 2: Digi-Key; Supplier Part Number 2: SAK-XC822MT-1FRA AA-ND; DMA Channels: 0; Green: TRUE; Halogen-free: TRUE; I/O Operation Voltages: 2.9 V - 5.0 V; On-chip clock generation: TRUE; On-chip Voltage Regulator: TRUE; Oscillator Watchdog: TRUE; Packing: Reel; Power Modes: 4; Real Time Clock (RTC): TRUE; SRAM (incl. Cache): 0.5 KByte; Timed I/O Pins (PWM-Ch,CAPCOM): 4; Timer / Counter: 3; Watchdog Timer: TRUE; Mounting Technology: Surface Mount; ComponentLink1Description: Manufacturer URL; ComponentLink1URL: http://www.infineon.com/; ComponentLink2Description: Datasheet; ComponentLink2URL: http://www.infineon.com/dgdl/XC822_XC824_ds_v1.2.pdf?folderId=db3a304412b407950112b40c497b0af6&fileId=db3a3043271faefd01273d68a3d968df; ComponentLink3Description: Package Specification; ComponentLink3URL: http://www.infineon.com/dgdl/XC822_XC824_ds_v1.2.pdf?folderId=db3a304412b407950112b40c497b0af6&fileId=db3a3043271faefd01273d68a3d968df&sId=db3a30433d956bc3013d9ff8a126291b
footprint INF-PG-TSSOP-16-1_N (SOP, 16-Leads, Body 5x4.4mm, Pitch 0.65mm, IPC Medium Density)
footprint INF-PG-TSSOP-16-1_L (SOP, 16-Leads, Body 5x4.4mm, Pitch 0.65mm, IPC High Density)
footprint INF-PG-TSSOP-16-1_M (SOP, 16-Leads, Body 5x4.4mm, Pitch 0.65mm, IPC Low Density)
pins: 1 P0.5 (io), 2 P0.6 (io), 3 P2.3 (in), 4 P2.2 (io), 5 P2.1 (in), 6 P2.0 (in), 7 P1.0 (io), 8 P1.2 (io), 9 VDDP (power) "I/O Port Supply (2.5 V - 5.5 V)", 10 VSSP/VSSC (power) "I/O Port Ground/Core Supply Ground", 11 VDDC (power) "Core Supply Output (2.5 V)", 12 P0.0 (io), 13 P0.1 (io), 14 P0.2 (io), 15 P0.3 (io), 16 P0.4 (io)

## SAK-XC836MT-1FRA AB
designator U?
24 MHz XC800-Automotive MCU with 4 KByte Program Memory, 0.5 KByte SRAM, 2.9 V - 5.0 V, PG-TSSOP-28, Reel, Green; Manufacturer: Infineon; PartNumber: SAK-XC836MT-1FRA AB; A / D input lines (incl. FADC): 4; CAN Nodes: 0; Digital I/O Lines: 25; DSP functionality (e.g MDU/MAC): FALSE; E2PROM Emulation (Data-Flash): TRUE; Instruction width [bits]: 8; LIN BSL loader (for fast Flash programming): FALSE; Max Clock Frequency: 24 MHz; Number of ADC Modules: 1; Program Memory: 4 KByte; Serial I/O Interfaces: 3; Type of Memory: Flash; Type of Serial I/O Interfaces: UART(1), SSC(1), I2C(1); DatasheetVersion: Rev. 1.4; PackageVersion: V1.4, 10/2011; PackageReference: PG-TSSOP-28-12; PackageDescription: 28-Pin Plastic (Green) Thin Shrink Small Outline Package, Body 9.7 x 4.4 mm, Pitch 0.65 mm; DMA Channels: 0; Green: TRUE; Halogen-free: TRUE; I/O Operation Voltages: 2.9 V - 5.0 V; On-chip clock generation: TRUE; On-chip Voltage Regulator: TRUE; Oscillator Watchdog: TRUE; Packing: Reel; Power Modes: 4; Real Time Clock (RTC): TRUE; SRAM (incl. Cache): 0.5 KByte; Timed I/O Pins (PWM-Ch,CAPCOM): 4; Timer / Counter: 3; Watchdog Timer: TRUE; Mounting Technology: Surface Mount; ComponentLink1Description: Manufacturer URL; ComponentLink1URL: http://www.infineon.com/; ComponentLink2Description: Datasheet; ComponentLink2URL: http://www.infineon.com/dgdl/XC835_XC836_ds_v1.4.pdf?folderId=db3a304412b407950112b40c497b0af6&fileId=db3a30432ba3fa6f012baa1500492fd3; ComponentLink3Description: Package Specification; ComponentLink3URL: http://www.infineon.com/dgdl/XC835_XC836_ds_v1.4.pdf?folderId=db3a304412b407950112b40c497b0af6&fileId=db3a30432ba3fa6f012baa1500492fd3
footprint INF-PG-TSSOP-28-12_N (SOP, 28-Leads, Body 9.7x4.4mm, Pitch 0.65mm, IPC Medium Density)
footprint INF-PG-TSSOP-28-12_L (SOP, 28-Leads, Body 9.7x4.4mm, Pitch 0.65mm, IPC High Density)
footprint INF-PG-TSSOP-28-12_M (SOP, 28-Leads, Body 9.7x4.4mm, Pitch 0.65mm, IPC Low Density)
pins: 1 P2.7 (in), 2 P2.6 (io), 3 P2.5 (in), 4 P2.4 (in), 5 P2.3 (in), 6 P2.2 (io), 7 P2.1 (in), 8 P2.0 (in), 9 P0.6 (io), 10 P0.5 (io), 11 P0.4 (io), 12 VDDP (power) "I/O Port Supply (2.5 V - 5.5 V)", 13 P1.3 (io), 14 P1.2 (io), 15 P1.1 (io), 16 P1.0 (io), 17 VSSP/VSSC (power) "I/O Port Ground/Core Supply Ground", 18 VDDC (power) "Core Supply Monitor (2.5 V)", 19 P1.4 (io), 20 P1.5 (io), 21 P0.0 (io), 22 P0.1 (io), 23 P0.2 (io), 24 P0.3 (io), 25 P3.1 (io), 26 P3.0 (io), 27 P3.2 (io), 28 P0.7 (io)

## SAK-XC836MT-2FRA AB
designator U?
24 MHz XC800-Automotive MCU with 8 KByte Program Memory, 0.5 KByte SRAM, 2.9 V - 5.0 V, PG-TSSOP-28, Reel, Green; Manufacturer: Infineon; PartNumber: SAK-XC836MT-2FRA AB; A / D input lines (incl. FADC): 4; CAN Nodes: 0; Digital I/O Lines: 25; DSP functionality (e.g MDU/MAC): FALSE; E2PROM Emulation (Data-Flash): TRUE; Instruction width [bits]: 8; LIN BSL loader (for fast Flash programming): FALSE; Max Clock Frequency: 24 MHz; Number of ADC Modules: 1; Program Memory: 8 KByte; Serial I/O Interfaces: 3; Type of Memory: Flash; Type of Serial I/O Interfaces: UART(1), SSC(1), I2C(1); DatasheetVersion: Rev. 1.4; PackageVersion: V1.4, 10/2011; PackageReference: PG-TSSOP-28-12; PackageDescription: 28-Pin Plastic (Green) Thin Shrink Small Outline Package, Body 9.7 x 4.4 mm, Pitch 0.65 mm; DMA Channels: 0; Green: TRUE; Halogen-free: TRUE; I/O Operation Voltages: 2.9 V - 5.0 V; On-chip clock generation: TRUE; On-chip Voltage Regulator: TRUE; Oscillator Watchdog: TRUE; Packing: Reel; Power Modes: 4; Real Time Clock (RTC): TRUE; SRAM (incl. Cache): 0.5 KByte; Timed I/O Pins (PWM-Ch,CAPCOM): 4; Timer / Counter: 3; Watchdog Timer: TRUE; Mounting Technology: Surface Mount; ComponentLink1Description: Manufacturer URL; ComponentLink1URL: http://www.infineon.com/; ComponentLink2Description: Datasheet; ComponentLink2URL: http://www.infineon.com/dgdl/XC835_XC836_ds_v1.4.pdf?folderId=db3a304412b407950112b40c497b0af6&fileId=db3a30432ba3fa6f012baa1500492fd3; ComponentLink3Description: Package Specification; ComponentLink3URL: http://www.infineon.com/dgdl/XC835_XC836_ds_v1.4.pdf?folderId=db3a304412b407950112b40c497b0af6&fileId=db3a30432ba3fa6f012baa1500492fd3
footprint INF-PG-TSSOP-28-12_N (SOP, 28-Leads, Body 9.7x4.4mm, Pitch 0.65mm, IPC Medium Density)
footprint INF-PG-TSSOP-28-12_L (SOP, 28-Leads, Body 9.7x4.4mm, Pitch 0.65mm, IPC High Density)
footprint INF-PG-TSSOP-28-12_M (SOP, 28-Leads, Body 9.7x4.4mm, Pitch 0.65mm, IPC Low Density)
pins: 1 P2.7 (in), 2 P2.6 (io), 3 P2.5 (in), 4 P2.4 (in), 5 P2.3 (in), 6 P2.2 (io), 7 P2.1 (in), 8 P2.0 (in), 9 P0.6 (io), 10 P0.5 (io), 11 P0.4 (io), 12 VDDP (power) "I/O Port Supply (2.5 V - 5.5 V)", 13 P1.3 (io), 14 P1.2 (io), 15 P1.1 (io), 16 P1.0 (io), 17 VSSP/VSSC (power) "I/O Port Ground/Core Supply Ground", 18 VDDC (power) "Core Supply Monitor (2.5 V)", 19 P1.4 (io), 20 P1.5 (io), 21 P0.0 (io), 22 P0.1 (io), 23 P0.2 (io), 24 P0.3 (io), 25 P3.1 (io), 26 P3.0 (io), 27 P3.2 (io), 28 P0.7 (io)

## SAK-XC864L-1FRI 5V AA
designator U?
26.67 MHz XC800-Industrail MCU with 4 KByte Program Memory, 0.75 KByte SRAM, 5 V, -40 to 125 degC, PG-TSSOP-20, Reel, Green; Manufacturer: Infineon; PartNumber: SAK-XC864L-1FRI 5V AA; A / D input lines (incl. FADC): 4; CAN Nodes: 0; Digital I/O Lines: 13; DSP functionality (e.g MDU/MAC): FALSE; E2PROM Emulation (Data-Flash): TRUE; I/O Operation Voltages: 5 V; Instruction width [bits]: 8; LIN BSL loader (for fast Flash programming): FALSE; Number of ADC Modules: 1; Program Memory: 4 KByte; Serial I/O Interfaces: 2; Timed I/O Pins (PWM-Ch,CAPCOM): 7; Timer / Counter: 3; Type of Memory: Flash; Type of Serial I/O Interfaces: UART(1), SSC(1); DatasheetVersion: Rev. 1.1; PackageVersion: Dec-09; PackageReference: PG-TSSOP-20-4; PackageDescription: 20-Pin Plastic (Green) Thin Shrink Small Outline Package, Body 6.5 x 4.4 mm, Pitch 0.65 mm; Supplier 1: Digi-Key; Supplier Part Number 1: SAK-XC864L-1FRI 5V AA-ND; DMA Channels: 0; Green: TRUE; Halogen-free: TRUE; Max Clock Frequency: 26.67 MHz; On-chip clock generation: TRUE; On-chip Voltage Regulator: TRUE; Oscillator Watchdog: TRUE; Packing: Reel; Power Modes: 4; SRAM (incl. Cache): 0.75 KByte; Watchdog Timer: TRUE; Mounting Technology: Surface Mount; ComponentLink1Description: Manufacturer URL; ComponentLink1URL: http://www.infineon.com/; ComponentLink2Description: Datasheet; ComponentLink2URL: http://www.infineon.com/dgdl/XC864_ds_V1.1.pdf?folderId=db3a304412b407950112b40c497b0af6&fileId=db3a30431b3e89eb011b5ac7914822ac; ComponentLink3Description: Package Specification; ComponentLink3URL: http://www.infineon.com/dgdl/PG-TSSOP-20-4-Package_Overview.pdf?folderId=db3a304325305e6d01254f892e565527&fileId=db3a304325305e6d01254f9348485542
footprint INF-PG-TSSOP-20-4_N (SOP, 20-Leads, Body 6.5x4.4mm, Pitch 0.65mm, IPC Medium Density)
footprint INF-PG-TSSOP-20-4_L (SOP, 20-Leads, Body 6.5x4.4mm, Pitch 0.65mm, IPC High Density)
footprint INF-PG-TSSOP-20-4_M (SOP, 20-Leads, Body 6.5x4.4mm, Pitch 0.65mm, IPC Low Density)
pins: 1 P0.5 (io), 2 VSSC (power) "Core Supply Ground", 3 VDDC (power) "Core Supply Monitor (2.5 V)", 4 TMS (in) "Test Mode Select", 5 P0.0 (io), 6 P0.2 (io), 7 P0.1 (io), 8 P2.0 (in), 9 P2.1 (in), 10 P2.2 (in), 11 VDDP (power) "I/O Port Supply (3.3 or 5.0 V). Also used by EVR and analog modules. All pins must be connected.", 12 VAGND/VSSP (power) "ADC Reference Ground/I/O Ground. All pins must be connected.", 13 VAREF (power) "ADC Reference Voltage", 14 P2.7 (in), 15 P1.0 (io), 16 P3.0 (io), 17 P3.1 (io), 18 ~{RESET} (in) "Reset Input", 19 P0.3 (io), 20 P0.4 (io)

## SAK-XC866-1FRA AB
designator U?
26.67 MHz XC800-Automotive MCU with 4 KByte Program Memory, 0.75 KByte SRAM, 5 V 3.3 V, PG-TSSOP-38, Reel, Green; Manufacturer: Infineon; PartNumber: SAK-XC866-1FRA AB; A / D input lines (incl. FADC): 8; CAN Nodes: 0; Digital I/O Lines: 27; DSP functionality (e.g MDU/MAC): FALSE; E2PROM Emulation (Data-Flash): TRUE; I/O Operation Voltages: 5 V 3.3 V; LIN BSL loader (for fast Flash programming): FALSE; Number of ADC Modules: 1; Power Modes: 4; Program Memory: 4 KByte; Serial I/O Interfaces: 2; Timer / Counter: 3; Type of Memory: Flash; Type of Serial I/O Interfaces: UART(1), SSC(1); DatasheetVersion: Rev. 1.2; PackageVersion: V1.2, 10/2007; PackageReference: PG-TSSOP-38-4; PackageDescription: 38-Pin Plastic (Green) Thin Shrink Small Outline Package, Body 9.7 x 4.4 mm, Pitch 0.5 mm; Supplier 1: Mouser; Supplier Part Number 1: 726-SAKXC8661FRAAB; Supplier 2: Digi-Key; Supplier Part Number 2: SAK-XC866-1FRA AB-ND; DMA Channels: 0; Green: TRUE; Halogen-free: TRUE; Instruction width [bits]: 8; Max Clock Frequency: 26.67 MHz; On-chip clock generation: TRUE; On-chip Voltage Regulator: TRUE; Oscillator Watchdog: TRUE; Packing: Reel; Real Time Clock (RTC): FALSE; SRAM (incl. Cache): 0.75 KByte; Timed I/O Pins (PWM-Ch,CAPCOM): 4; Watchdog Timer: TRUE; Mounting Technology: Surface Mount; ComponentLink1Description: Manufacturer URL; ComponentLink1URL: http://www.infineon.com/; ComponentLink2Description: Datasheet; ComponentLink2URL: http://www.infineon.com/dgdl/XC866_ds_v12.pdf?folderId=db3a304412b407950112b408e8c90004&fileId=db3a304412b407950112b4198e7528a5; ComponentLink3Description: Package Specification; ComponentLink3URL: http://www.infineon.com/dgdl/XC866_ds_v12.pdf?folderId=db3a304412b407950112b408e8c90004&fileId=db3a304412b407950112b4198e7528a5&sId=db3a30433d956bc3013da013eedc2925
footprint INF-PG-TSSOP-38-4_N (SOP, 38-Leads, Body 9.7x4.4mm, Pitch 0.5mm, IPC Medium Density)
footprint INF-PG-TSSOP-38-4_L (SOP, 38-Leads, Body 9.7x4.4mm, Pitch 0.5mm, IPC High Density)
footprint INF-PG-TSSOP-38-4_M (SOP, 38-Leads, Body 9.7x4.4mm, Pitch 0.5mm, IPC Low Density)
pins: 1 MBC (in) "Monitor & BootStrap Loader Control", 2 P0.3 (io), 3 P0.4 (io), 4 P0.5 (io), 5 XTAL2 "External Oscillator Output (NC if not needed)", 6 XTAL1 "External Oscillator Input (NC if not needed)", 7 VSSC (power) "Core Supply Ground", 8 VDDC (power) "Core Supply Monitor (2.5 V)", 9 P1.6 (io), 10 P1.7 (io), 11 TMS (in) "Test Mode Select", 12 P0.0 (io), 13 P0.2 (io), 14 P0.1 (io), 15 P2.0 (in), 16 P2.1 (in), 17 P2.2 (in), 18 VDDP (power) "I/O Port Supply (3.3 V/5.0 V) Also used by EVR and analog modules.", 19 VSSP (power) "I/O Port Ground", 20 P2.3 (in), 21 P2.4 (in), 22 P2.5 (in), 23 P2.6 (in), 24 VAGND (power) "ADC Reference Ground", 25 VAREF (power) "ADC Reference Voltage", 26 P2.7 (in), 27 P1.0 (io), 28 P1.1 (io), 29 P1.5 (io), 30 P3.6 (io), 31 P3.7 (io), 32 P3.0 (io), 33 P3.1 (io), 34 P3.2 (io), 35 P3.3 (io), 36 P3.4 (io), 37 P3.5 (io), 38 ~{RESET} (in) "Reset Input"

## SAK-XC866-1FRI AB
designator U?
26.67 MHz XC800-Industrail MCU with 4 KByte Program Memory, 0.75 KByte SRAM, 5 V 3.3 V, -40 to 125 degC, PG-TSSOP-38, Reel, Green; Manufacturer: Infineon; PartNumber: SAK-XC866-1FRI AB; A / D input lines (incl. FADC): 8; CAN Nodes: 0; Digital I/O Lines: 27; DSP functionality (e.g MDU/MAC): FALSE; E2PROM Emulation (Data-Flash): TRUE; I/O Operation Voltages: 5 V 3.3 V; LIN BSL loader (for fast Flash programming): FALSE; Number of ADC Modules: 1; Power Modes: 4; Program Memory: 4 KByte; Serial I/O Interfaces: 2; Timer / Counter: 3; Type of Memory: Flash; Type of Serial I/O Interfaces: UART(1), SSC(1); DatasheetVersion: Rev. 1.2; PackageVersion: V1.2, 10/2007; PackageReference: PG-TSSOP-38-4; PackageDescription: 38-Pin Plastic (Green) Thin Shrink Small Outline Package, Body 9.7 x 4.4 mm, Pitch 0.5 mm; Supplier 1: Digi-Key; Supplier Part Number 1: SAK-XC866-1FRI AB-ND; DMA Channels: 0; Green: TRUE; Halogen-free: TRUE; Instruction width [bits]: 8; Max Clock Frequency: 26.67 MHz; On-chip clock generation: TRUE; On-chip Voltage Regulator: TRUE; Oscillator Watchdog: TRUE; Packing: Reel; SRAM (incl. Cache): 0.75 KByte; Timed I/O Pins (PWM-Ch,CAPCOM): 4; Watchdog Timer: TRUE; Mounting Technology: Surface Mount; ComponentLink1Description: Manufacturer URL; ComponentLink1URL: http://www.infineon.com/; ComponentLink2Description: Datasheet; ComponentLink2URL: http://www.infineon.com/dgdl/XC866_ds_v12.pdf?folderId=db3a304412b407950112b408e8c90004&fileId=db3a304412b407950112b4198e7528a5; ComponentLink3Description: Package Specification; ComponentLink3URL: http://www.infineon.com/dgdl/XC866_ds_v12.pdf?folderId=db3a304412b407950112b408e8c90004&fileId=db3a304412b407950112b4198e7528a5&sId=db3a30433d956bc3013da013eedc2925
footprint INF-PG-TSSOP-38-4_N (SOP, 38-Leads, Body 9.7x4.4mm, Pitch 0.5mm, IPC Medium Density)
footprint INF-PG-TSSOP-38-4_L (SOP, 38-Leads, Body 9.7x4.4mm, Pitch 0.5mm, IPC High Density)
footprint INF-PG-TSSOP-38-4_M (SOP, 38-Leads, Body 9.7x4.4mm, Pitch 0.5mm, IPC Low Density)
pins: 1 MBC (in) "Monitor & BootStrap Loader Control", 2 P0.3 (io), 3 P0.4 (io), 4 P0.5 (io), 5 XTAL2 "External Oscillator Output (NC if not needed)", 6 XTAL1 "External Oscillator Input (NC if not needed)", 7 VSSC (power) "Core Supply Ground", 8 VDDC (power) "Core Supply Monitor (2.5 V)", 9 P1.6 (io), 10 P1.7 (io), 11 TMS (in) "Test Mode Select", 12 P0.0 (io), 13 P0.2 (io), 14 P0.1 (io), 15 P2.0 (in), 16 P2.1 (in), 17 P2.2 (in), 18 VDDP (power) "I/O Port Supply (3.3 V/5.0 V) Also used by EVR and analog modules.", 19 VSSP (power) "I/O Port Ground", 20 P2.3 (in), 21 P2.4 (in), 22 P2.5 (in), 23 P2.6 (in), 24 VAGND (power) "ADC Reference Ground", 25 VAREF (power) "ADC Reference Voltage", 26 P2.7 (in), 27 P1.0 (io), 28 P1.1 (io), 29 P1.5 (io), 30 P3.6 (io), 31 P3.7 (io), 32 P3.0 (io), 33 P3.1 (io), 34 P3.2 (io), 35 P3.3 (io), 36 P3.4 (io), 37 P3.5 (io), 38 ~{RESET} (in) "Reset Input"